# Altium footprint library IC packages.PcbLib: 68 footprints (part 1 of 5)
Each footprint in its own frame and in the unit in brackets; x right, y up, seen from the top. Pads: shape width x height; smd on the part's side, far side on the other; paste and mask are expansions set on the pad; w line width, h text height; cw(c..) or ccw(c..) is an arc to the next point about the centre after c.
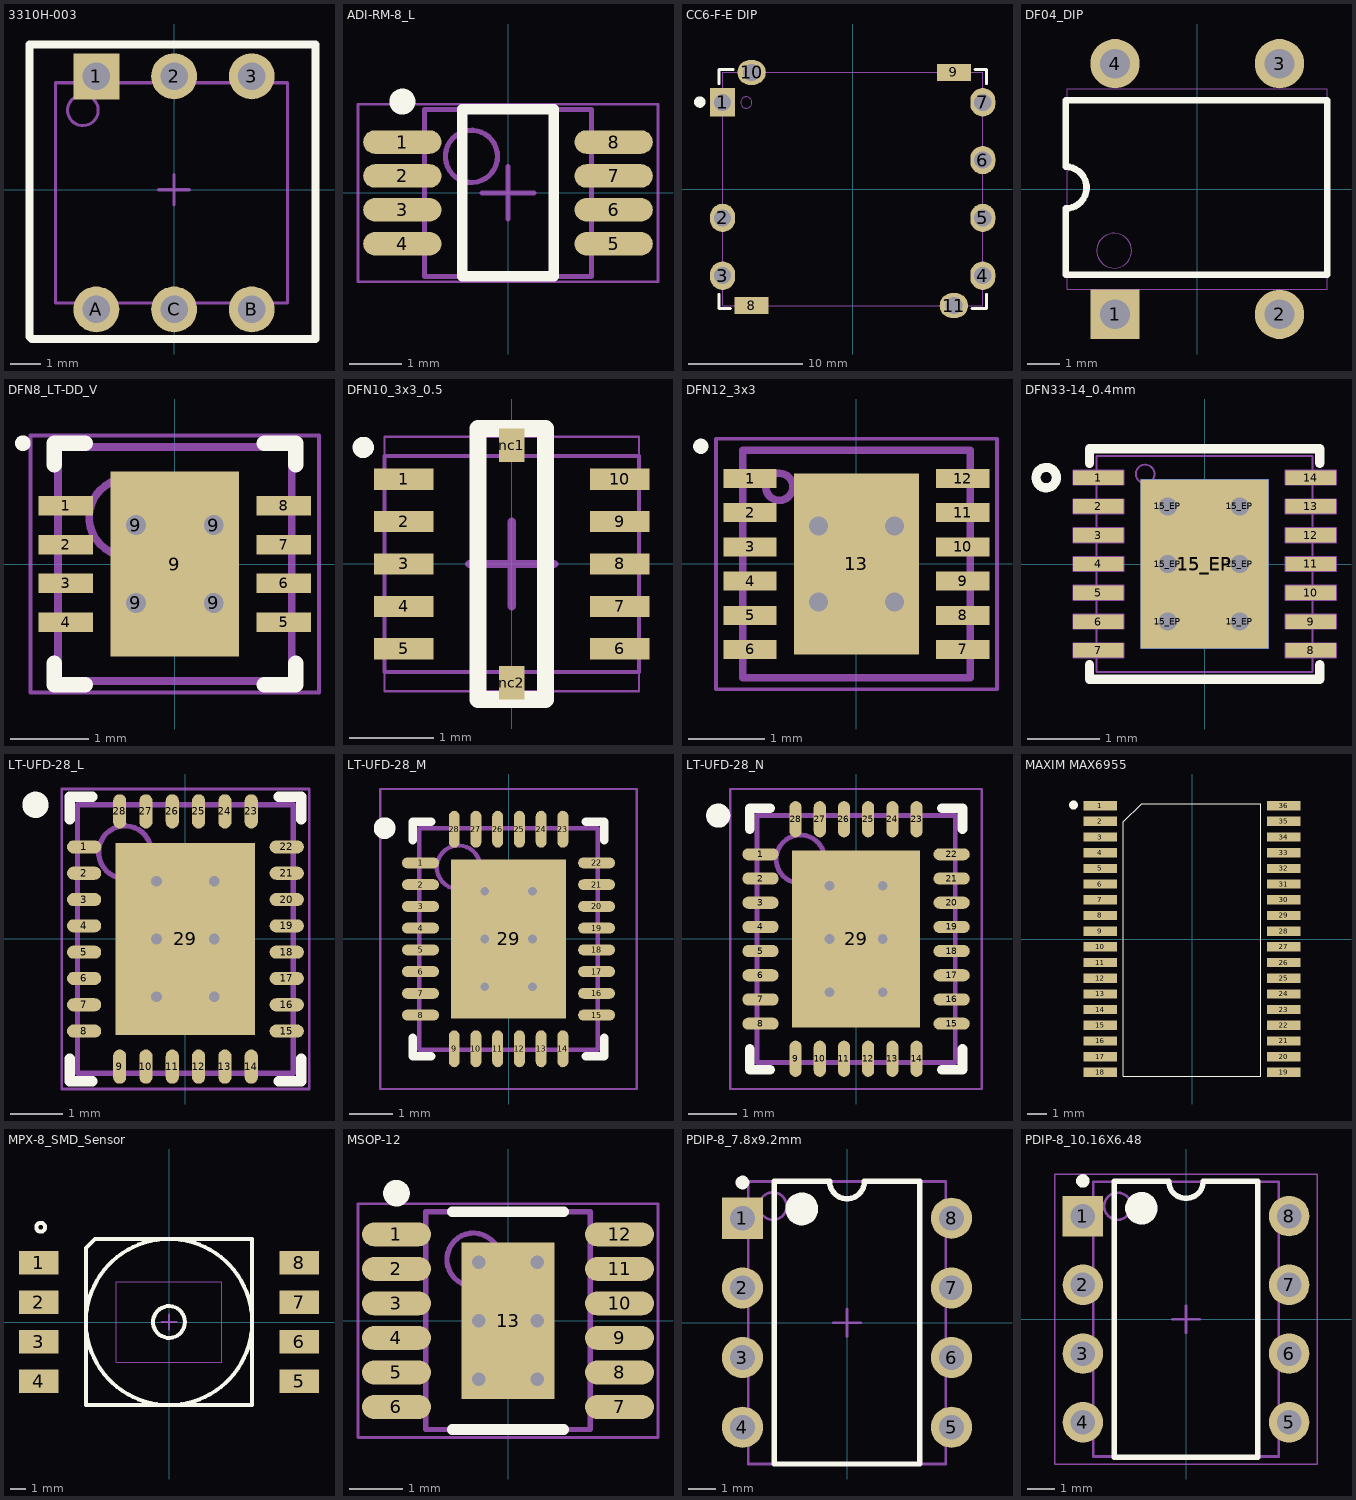
[diagram p0: the footprints below, top view; thin cyan lines are the x and y axes]

## 3310H-003 [mm] "6 Pin PDIP package, 7.8x9.2mm"
height 3.3
pads (6):
  rect 1.5x1.5 hole 0.9: 1(-2.54,3.708)
  round 1.5 hole 0.9: 2(0,3.708) 3(2.54,3.708) A(-2.54,-3.912) B(2.54,-3.912) C(0,-3.912)
Top Overlay:
  lines w0.254: -4.724,-4.801 -4.724,4.75 4.623,4.75 4.623,-4.877 -4.648,-4.877 -4.724,-4.801
Bottom Overlay:
  circle w0.25: c-3.886,4.115 r0.125
  lines w0.2: -4.032,-3.48 3.48,-3.48 3.48,3.581 -4.032,3.581 -4.032,0.686 cw(c-4.032,0.051) -4.032,-0.584 -4.032,-3.48
  lines w0.254: -4.953,-4.826 4.572,-4.826 4.572,4.928 -4.953,4.928 -4.953,-4.826
Mechanical 1:
  circle w0.1: c-2.98,2.598 r0.5
  lines w0.1: -3.88,-3.702 3.708,-3.702 3.708,3.498 -3.88,3.498 -3.88,-3.702
  text ".Designator" at -3.327,-0.559 h1.52
Mechanical 15:
  lines w0.1: -0.5,0 0.5,0 ; 0,-0.5 0,0.5
3D body "3310h-003.stp": height 20.24, standoff -5.97, extent -4.737,-5.004 4.788,4.75

## ADI-RM-8_L [mm] "SOP, 8-Leads, Body 3x3mm, Pitch 0.65mm, IPC High Density"
height 1.1
pads (8):
  oval 1.5x0.45 smd: 1(-2.025,0.975) 2(-2.025,0.325) 3(-2.025,-0.325) 4(-2.025,-0.975) 5(2.025,-0.975) 6(2.025,-0.325) 7(2.025,0.325) 8(2.025,0.975)
Top Overlay:
  circle w0.25: c-2.025,1.75 r0.125
  lines w0.2: -0.875,-1.6 0.875,-1.6 0.875,1.6 -0.875,1.6 -0.875,-1.6
Mechanical 13:
  circle w0.1: c-0.7,0.7 r0.5
  lines w0.1: -1.6,-1.6 1.6,-1.6 1.6,1.6 -1.6,1.6 -1.6,-1.6
Mechanical 15:
  lines w0.05: -2.875,-1.7 2.875,-1.7 2.875,1.7 -2.875,1.7 -2.875,-1.7
  lines w0.1: -0.5,0 0.5,0 ; 0,-0.5 0,0.5
3D body: height 1.1, standoff 0, extent -1.6,-1.6 1.6,1.6

## CC6-F-E DIP [mm] "TDK Lambda DC to DC can Pckg"
height 8.5
pads (11):
  rect 2.2x2.5 hole 1.5: 1(-11.43,7.62)
  oval 2.2x2.5 hole 1.5: 2(-11.43,-2.54) 3(-11.43,-7.62) 4(11.43,-7.62) 5(11.43,-2.54) 6(11.43,2.54) 7(11.43,7.62)
  rect 3x1.5 smd: 8(-8.89,-10.25) 9(8.89,10.25)
  oval 2.5x2.2 hole 1.5: 10(-8.89,10.25) 11(8.89,-10.25)
Top Overlay:
  circle w0.5: c-13.435,7.64 r0.25
  lines w0.254: -11.75,-9.25 -11.75,-10.5 -10.75,-10.5 ; -11.75,9.25 -11.75,10.5 -10.5,10.5 ; 10.5,-10.5 11.75,-10.5 11.75,-9.25 ; 10.75,10.5 11.75,10.5 11.75,9.25
Mechanical 1:
  circle w0.1: c-9.36,7.599 r0.5
  lines w0.025: -11.565,-8.122 -11.565,-7.118 -11.295,-7.118 -11.295,-8.122 ; -11.565,-8.122 -11.295,-8.122 ; -11.565,-8.122 -11.295,-8.122 ; -11.565,-3.042 -11.565,-2.038 -11.295,-2.038 -11.295,-3.042 ; -11.565,-3.042 -11.295,-3.042 ; -11.565,-3.042 -11.295,-3.042 ; -11.565,7.118 -11.295,7.118 ; -11.565,7.118 -11.295,7.118 ; -11.565,7.118 -11.565,8.122 -11.295,8.122 -11.295,7.118 ; -8.388,-10.385 -8.388,-10.115 ; -8.388,-10.385 -8.388,-10.115 ; -8.388,-10.385 -9.392,-10.385 -9.392,-10.115 -8.388,-10.115 ; -8.388,10.115 -9.392,10.115 -9.392,10.385 -8.388,10.385 ; -8.388,10.115 -8.388,10.385 ; -8.388,10.115 -8.388,10.385 ; 9.392,-10.385 9.392,-10.115 ; 9.392,-10.385 9.392,-10.115 ; 9.392,-10.385 8.388,-10.385 8.388,-10.115 9.392,-10.115 ; 9.392,10.115 9.392,10.385 ; 9.392,10.115 9.392,10.385 ; 9.392,10.115 8.388,10.115 8.388,10.385 9.392,10.385 ; 11.295,-8.122 11.295,-7.118 11.565,-7.118 11.565,-8.122 ; 11.295,-8.122 11.565,-8.122 ; 11.295,-8.122 11.565,-8.122 ; 11.295,-3.042 11.295,-2.038 11.565,-2.038 11.565,-3.042 ; 11.295,-3.042 11.565,-3.042 ; 11.295,-3.042 11.565,-3.042 ; 11.295,2.038 11.295,3.042 11.565,3.042 11.565,2.038 ; 11.295,2.038 11.565,2.038 ; 11.295,2.038 11.565,2.038 ; 11.295,7.118 11.295,8.122 11.565,8.122 11.565,7.118 ; 11.295,7.118 11.565,7.118 ; 11.295,7.118 11.565,7.118 ; -11.43,-10.25 -11.43,10.25 -8.89,10.25 0,10.25 8.89,10.25 11.43,10.25 11.43,-10.25 8.89,-10.25 -8.89,-10.25 -11.43,-10.25
  text ".Designator" at -1.988,-0.453 h1.52
3D body: height 8.5, standoff 0.5, extent -11.43,-10.25 11.43,10.25
3D body: height 2.09, standoff 0, extent -11.565,7.12 -11.295,8.12
3D body: height 2.36, standoff 2.09, extent -11.565,7.12 -11.045,8.12
3D body: height 0, standoff -1.6, extent -11.565,7.26 -11.295,7.98
3D body: height 2.09, standoff 0, extent 8.39,-10.385 9.39,-10.115
3D body: height 2.36, standoff 2.09, extent 8.39,-10.385 9.39,-9.865
3D body: height 0, standoff -1.6, extent 8.53,-10.385 9.25,-10.115
3D body: height 2.09, standoff 0, extent -9.39,10.115 -8.39,10.385
3D body: height 2.36, standoff 2.09, extent -9.39,9.865 -8.39,10.385
3D body: height 0, standoff -1.6, extent -9.25,10.115 -8.53,10.385
3D body: height 0, standoff -1.6, extent -11.565,-2.9 -11.295,-2.18
3D body: height 2.36, standoff 2.09, extent -11.565,-3.04 -11.045,-2.04
3D body: height 2.09, standoff 0, extent -11.565,-3.04 -11.295,-2.04
3D body: height 2.09, standoff 0, extent -11.565,-8.12 -11.295,-7.12
3D body: height 2.36, standoff 2.09, extent -11.565,-8.12 -11.045,-7.12
3D body: height 0, standoff -1.6, extent -11.565,-7.98 -11.295,-7.26
3D body: height 0, standoff -1.6, extent 11.295,-7.98 11.565,-7.26
3D body: height 2.36, standoff 2.09, extent 11.045,-8.12 11.565,-7.12
3D body: height 2.09, standoff 0, extent 11.295,-8.12 11.565,-7.12
3D body: height 2.09, standoff 0, extent 11.295,-3.04 11.565,-2.04
3D body: height 2.36, standoff 2.09, extent 11.045,-3.04 11.565,-2.04
3D body: height 0, standoff -1.6, extent 11.295,-2.9 11.565,-2.18
3D body: height 0, standoff -1.6, extent 11.295,7.26 11.565,7.98
3D body: height 2.36, standoff 2.09, extent 11.045,7.12 11.565,8.12
3D body: height 2.09, standoff 0, extent 11.295,7.12 11.565,8.12
3D body: height 0, standoff -1.6, extent 11.295,2.18 11.565,2.9
3D body: height 2.36, standoff 2.09, extent 11.045,2.04 11.565,3.04
3D body: height 2.09, standoff 0, extent 11.295,2.04 11.565,3.04

## DF04_DIP [mm] "4 pin DIP"
height 3.3
pads (4):
  rect 1.5x1.5 hole 0.9: 1(-2.5,-3.81)
  round 1.5 hole 0.9: 2(2.5,-3.81) 3(2.5,3.81) 4(-2.5,3.81)
Top Overlay:
  lines w0.2: -4,-2.608 -4,-0.593 ccw(c-4,0.042) -4,0.677 -4,2.692 3.95,2.692 3.95,-2.608 -4,-2.608
Mechanical 1:
  circle w0.025: c-2.525,-1.875 r0.53
  lines w0.025: -3.95,-3.05 -3.95,3.05 3.95,3.05 3.95,-3.05 -3.95,-3.05
  text ".Designator" at -2.5,-0.81 h1.52
Mechanical 15:
  lines w0.1: -3,-3.81 -2,-3.81 ; -2.5,-4.31 -2.5,-3.31
3D body "Bridge Rectifiers DF04.step": height 3.63, standoff -3.18, extent -4.1,-3.96 4.1,3.96

## DFN8_LT-DD_V [mm] "SON, 8-Leads, Body 3x3mm, Pitch 0.5mm, Thermal Pad 1.65x2.38 mm"
height 0.8
pads (13):
  rect 0.7x0.25 smd mask+0.102: 1(-1.4,0.75) 2(-1.4,0.25) 3(-1.4,-0.25) 4(-1.4,-0.75) 5(1.4,-0.75) 6(1.4,-0.25) 7(1.4,0.25) 8(1.4,0.75)
  round 0.508 hole 0.254: 9(-0.5,-0.5) 9(-0.5,0.5) 9(0.5,-0.5) 9(0.5,0.5)
  rect 1.65x2.38 smd mask+0.102: 9(0,0)
Top Overlay:
  circle w0.1: c-1.95,1.55 r0.05
  lines w0.2: -1.55,-1.275 -1.55,-1.55 -1.15,-1.55 ; -1.55,1.275 -1.55,1.55 -1.15,1.55 ; 1.15,-1.55 1.55,-1.55 1.55,-1.275 ; 1.15,1.55 1.55,1.55 1.55,1.275
Mechanical 1:
  circle w0.1: c-0.6,0.6 r0.5
  lines w0.1: -1.5,-1.5 1.5,-1.5 1.5,1.5 -1.5,1.5 -1.5,-1.5
Mechanical 15:
  lines w0.05: -1.85,-1.65 1.85,-1.65 1.85,1.65 -1.85,1.65 -1.85,-1.65
  lines w0.1: -0.5,0 0.5,0 ; 0,-0.5 0,0.5
3D body: height 0.8, standoff 0, extent -1.5,-1.5 1.5,1.5

## DFN10_3x3_0.5 [mm] "DFN, 10-leads, Body 3x3mm, Pitch 0.5mm"
height 1
pads (12):
  rect 0.7x0.25 smd mask-1: 1(-1.275,1) 2(-1.275,0.5) 3(-1.275,0) 4(-1.275,-0.5) 5(-1.275,-1) 6(1.275,-1) 7(1.275,-0.5) 8(1.275,0) 9(1.275,0.5) 10(1.275,1)
  rect 0.3x0.4 smd: nc1(0,1.4) nc2(0,-1.4)
Top Overlay:
  circle w0.125: c-1.75,1.375 r0.062
  lines w0.2: -0.4,-1.6 0.4,-1.6 0.4,1.6 -0.4,1.6 -0.4,-1.6
Top Solder:
  region: 1.725,1.2 0.8,1.2 0.8,-1.2 1.725,-1.2
  region: -1.725,1.2 -0.8,1.2 -0.8,-1.2 -1.725,-1.2
Mechanical 1:
  lines w0.025: -1.5,-1.5 -1.5,1.5 1.5,1.5 1.5,-1.5 -1.5,-1.5
Mechanical 15:
  lines w0.05: -1.5,-1.275 -1.5,1.275 1.5,1.275 1.5,-1.275 -1.5,-1.275
  lines w0.1: -0.5,0 0.5,0 ; 0,-0.5 0,0.5
3D body "DFN-10_3x3.STEP": height 0.8, standoff 0, extent -1.5,-1.5 1.5,1.5

## DFN12_3x3 [mm] "DFN, 12-Leads, Body 3x3mm, Pitch 0.45mm, Thermal Pad 2.38x1.65mm"
height 0.8
pads (13):
  rect 0.7x0.25 smd: 1(-1.4,1.125) 2(-1.4,0.675) 3(-1.4,0.225) 4(-1.4,-0.225) 5(-1.4,-0.675) 6(-1.4,-1.125) 7(1.4,-1.125) 8(1.4,-0.675) 9(1.4,-0.225) 10(1.4,0.225) 11(1.4,0.675) 12(1.4,1.125)
  rect 1.65x2.38 smd: 13(0,0)
via -0.5,0.5 diameter 0.508 hole 0.254
via 0.5,0.5 diameter 0.508 hole 0.254
via -0.5,-0.5 diameter 0.508 hole 0.254
via 0.5,-0.5 diameter 0.508 hole 0.254
Top Overlay:
  circle w0.1: c-2.05,1.55 r0.05
Mechanical 1:
  circle w0.1: c-1.016,1.016 r0.179
  lines w0.1: -1.5,-1.5 -1.5,1.5 1.5,1.5 1.5,-1.5 -1.5,-1.5
  text ".Designator" at -1.157,1.81 h1
Mechanical 15:
  lines w0.05: -1.85,-1.65 -1.85,1.65 1.85,1.65 1.85,-1.65 -1.85,-1.65
  lines w0.1: -0.5,0 0.5,0 ; 0,-0.5 0,0.5
3D body: height 0.8, standoff 0, extent -1.5,-1.5 1.5,1.5

## DFN33-14_0.4mm [mm] "DFN package, 14pin, 0.4mm"
height 0.75
pads (22):
  rect 0.7x0.2 smd: 1(-1.475,1.2) 2(-1.475,0.8) 3(-1.475,0.4) 4(-1.475,0) 5(-1.475,-0.4) 6(-1.475,-0.8) 7(-1.475,-1.2) 8(1.475,-1.2) 9(1.475,-0.8) 10(1.475,-0.4) 11(1.475,0) 12(1.475,0.4) 13(1.475,0.8) 14(1.475,1.2)
  round 0.5 hole 0.254 mask+0: 15_EP(-0.51,-0.8) 15_EP(-0.51,0) 15_EP(-0.51,0.8) 15_EP(0.49,-0.8) 15_EP(0.49,0) 15_EP(0.49,0.8)
  rect 1.78x2.35 smd far side: 15_EP(0,0)
  rect 1.78x2.35 smd: 15_EP(0,0)
Top Layer:
  lines w0.015: -0.4,0.4 -0.4,0.41 -0.39,0.41
Top Overlay:
  circle w0.127: c-2.2,1.2 r0.141
  lines w0.127: -1.6,-1.4 -1.6,-1.6 1.6,-1.6 1.6,-1.4 ; -1.6,1.4 -1.6,1.6 1.6,1.6 1.6,1.4
Mechanical 1:
  circle w0.025: c-0.825,1.25 r0.13
  lines w0.025: -1.825,-1.3 -1.825,-1.1 -1.125,-1.1 -1.125,-1.3 -1.825,-1.3 ; -1.825,-0.9 -1.825,-0.7 -1.125,-0.7 -1.125,-0.9 -1.825,-0.9 ; -1.825,-0.5 -1.825,-0.3 -1.125,-0.3 -1.125,-0.5 -1.825,-0.5 ; -1.825,-0.1 -1.825,0.1 -1.125,0.1 -1.125,-0.1 -1.825,-0.1 ; -1.825,0.3 -1.825,0.5 -1.125,0.5 -1.125,0.3 -1.825,0.3 ; -1.825,0.7 -1.825,0.9 -1.125,0.9 -1.125,0.7 -1.825,0.7 ; -1.825,1.1 -1.125,1.1 -1.125,1.3 -1.825,1.3 -1.825,1.1 ; -1.5,-1.5 1.5,-1.5 1.5,1.5 -1.5,1.5 -1.5,-1.5 ; 1.125,-1.3 1.125,-1.1 1.825,-1.1 1.825,-1.3 1.125,-1.3 ; 1.125,-0.9 1.125,-0.7 1.825,-0.7 1.825,-0.9 1.125,-0.9 ; 1.125,-0.5 1.125,-0.3 1.825,-0.3 1.825,-0.5 1.125,-0.5 ; 1.125,-0.1 1.125,0.1 1.825,0.1 1.825,-0.1 1.125,-0.1 ; 1.125,0.3 1.125,0.5 1.825,0.5 1.825,0.3 1.125,0.3 ; 1.125,0.7 1.125,0.9 1.825,0.9 1.825,0.7 1.125,0.7 ; 1.125,1.1 1.125,1.3 1.825,1.3 1.825,1.1 1.125,1.1
  text ".Designator" at -0.7,1.7 h1.52
3D body: height 0.75, standoff 0, extent -1.5,-1.5 1.5,1.5

## LT-UFD-28_L [mm] "QFN, 28-Leads, Body 5.1x4.1mm, Pitch 0.5mm, Thermal Pad 3.65x2.65mm, IPC High Density"
height 0.8
pads (29):
  oval 0.65x0.25 smd: 1(-1.925,1.75) 2(-1.925,1.25) 3(-1.925,0.75) 4(-1.925,0.25) 5(-1.925,-0.25) 6(-1.925,-0.75) 7(-1.925,-1.25) 8(-1.925,-1.75) 15(1.925,-1.75) 16(1.925,-1.25) 17(1.925,-0.75) 18(1.925,-0.25) 19(1.925,0.25) 20(1.925,0.75) 21(1.925,1.25) 22(1.925,1.75)
  oval 0.25x0.65 smd: 9(-1.25,-2.425) 10(-0.75,-2.425) 11(-0.25,-2.425) 12(0.25,-2.425) 13(0.75,-2.425) 14(1.25,-2.425) 23(1.25,2.425) 24(0.75,2.425) 25(0.25,2.425) 26(-0.25,2.425) 27(-0.75,2.425) 28(-1.25,2.425)
  rect 2.65x3.65 smd: 29(0,0)
via 0.55,-1.1 diameter 0.5 hole 0.2
via -0.55,-1.1 diameter 0.5 hole 0.2
via 0.55,0 diameter 0.5 hole 0.2
via -0.55,0 diameter 0.5 hole 0.2
via 0.55,1.1 diameter 0.5 hole 0.2
via -0.55,1.1 diameter 0.5 hole 0.2
Top Overlay:
  circle w0.25: c-2.85,2.55 r0.125
  lines w0.2: -2.2,-2.275 -2.2,-2.7 -1.775,-2.7 ; -2.2,2.275 -2.2,2.7 -1.775,2.7 ; 1.775,-2.7 2.2,-2.7 2.2,-2.275 ; 1.775,2.7 2.2,2.7 2.2,2.275
Mechanical 13:
  circle w0.1: c-1.15,1.65 r0.5
  lines w0.1: -2.05,-2.55 2.05,-2.55 2.05,2.55 -2.05,2.55 -2.05,-2.55
Mechanical 15:
  lines w0.05: -2.35,-2.85 2.35,-2.85 2.35,2.85 -2.35,2.85 -2.35,-2.85
  lines w0.1: -0.5,0 0.5,0 ; 0,-0.5 0,0.5
3D body: height 0.8, standoff 0, extent -2.05,-2.55 2.05,2.55

## LT-UFD-28_M [mm] "QFN, 28-Leads, Body 5.1x4.1mm, Pitch 0.5mm, Thermal Pad 3.65x2.65mm, IPC Low Density"
height 0.8
pads (29):
  oval 0.85x0.25 smd: 1(-2.025,1.75) 2(-2.025,1.25) 3(-2.025,0.75) 4(-2.025,0.25) 5(-2.025,-0.25) 6(-2.025,-0.75) 7(-2.025,-1.25) 8(-2.025,-1.75) 15(2.025,-1.75) 16(2.025,-1.25) 17(2.025,-0.75) 18(2.025,-0.25) 19(2.025,0.25) 20(2.025,0.75) 21(2.025,1.25) 22(2.025,1.75)
  oval 0.25x0.85 smd: 9(-1.25,-2.525) 10(-0.75,-2.525) 11(-0.25,-2.525) 12(0.25,-2.525) 13(0.75,-2.525) 14(1.25,-2.525) 23(1.25,2.525) 24(0.75,2.525) 25(0.25,2.525) 26(-0.25,2.525) 27(-0.75,2.525) 28(-1.25,2.525)
  rect 2.65x3.65 smd: 29(0,0)
via 0.55,-1.1 diameter 0.5 hole 0.2
via -0.55,-1.1 diameter 0.5 hole 0.2
via 0.55,0 diameter 0.5 hole 0.2
via -0.55,0 diameter 0.5 hole 0.2
via 0.55,1.1 diameter 0.5 hole 0.2
via -0.55,1.1 diameter 0.5 hole 0.2
Top Overlay:
  circle w0.25: c-2.85,2.55 r0.125
  lines w0.2: -2.2,-2.275 -2.2,-2.7 -1.775,-2.7 ; -2.2,2.275 -2.2,2.7 -1.775,2.7 ; 1.775,-2.7 2.2,-2.7 2.2,-2.275 ; 1.775,2.7 2.2,2.7 2.2,2.275
Mechanical 13:
  circle w0.1: c-1.15,1.65 r0.5
  lines w0.1: -2.05,-2.55 2.05,-2.55 2.05,2.55 -2.05,2.55 -2.05,-2.55
Mechanical 15:
  lines w0.05: -2.95,-3.45 2.95,-3.45 2.95,3.45 -2.95,3.45 -2.95,-3.45
  lines w0.1: -0.5,0 0.5,0 ; 0,-0.5 0,0.5
3D body: height 0.8, standoff 0, extent -2.05,-2.55 2.05,2.55

## LT-UFD-28_N [mm] "QFN, 28-Leads, Body 5.1x4.1mm, Pitch 0.5mm, Thermal Pad 3.65x2.65mm, IPC Medium Density"
height 0.8
pads (29):
  oval 0.75x0.25 smd: 1(-1.975,1.75) 2(-1.975,1.25) 3(-1.975,0.75) 4(-1.975,0.25) 5(-1.975,-0.25) 6(-1.975,-0.75) 7(-1.975,-1.25) 8(-1.975,-1.75) 15(1.975,-1.75) 16(1.975,-1.25) 17(1.975,-0.75) 18(1.975,-0.25) 19(1.975,0.25) 20(1.975,0.75) 21(1.975,1.25) 22(1.975,1.75)
  oval 0.25x0.75 smd: 9(-1.25,-2.475) 10(-0.75,-2.475) 11(-0.25,-2.475) 12(0.25,-2.475) 13(0.75,-2.475) 14(1.25,-2.475) 23(1.25,2.475) 24(0.75,2.475) 25(0.25,2.475) 26(-0.25,2.475) 27(-0.75,2.475) 28(-1.25,2.475)
  rect 2.65x3.65 smd: 29(0,0)
via -0.55,1.1 diameter 0.5 hole 0.2
via 0.55,1.1 diameter 0.5 hole 0.2
via -0.55,0 diameter 0.5 hole 0.2
via 0.55,0 diameter 0.5 hole 0.2
via -0.55,-1.1 diameter 0.5 hole 0.2
via 0.55,-1.1 diameter 0.5 hole 0.2
Top Overlay:
  circle w0.25: c-2.85,2.55 r0.125
  lines w0.2: -2.2,-2.275 -2.2,-2.7 -1.775,-2.7 ; -2.2,2.275 -2.2,2.7 -1.775,2.7 ; 1.775,-2.7 2.2,-2.7 2.2,-2.275 ; 1.775,2.7 2.2,2.7 2.2,2.275
Mechanical 13:
  circle w0.1: c-1.15,1.65 r0.5
  lines w0.1: -2.05,-2.55 -2.05,2.55 2.05,2.55 2.05,-2.55 -2.05,-2.55
Mechanical 15:
  lines w0.05: -2.6,-3.1 -2.6,3.1 2.6,3.1 2.6,-3.1 -2.6,-3.1
  lines w0.1: -0.5,0 0.5,0 ; 0,-0.5 0,0.5
3D body: height 0.8, standoff 0, extent -2.05,-2.55 2.05,2.55

## MAXIM MAX6955 [mm] "MAXIM MAX6955"
pads (36):
  rect 1.7x0.47 smd: 1(-4.675,6.8) 2(-4.675,6) 3(-4.675,5.2) 4(-4.675,4.4) 5(-4.675,3.6) 6(-4.675,2.8) 7(-4.675,2) 8(-4.675,1.2) 9(-4.675,0.4) 10(-4.675,-0.4) 11(-4.675,-1.2) 12(-4.675,-2) 13(-4.675,-2.8) 14(-4.675,-3.6) 15(-4.675,-4.4) 16(-4.675,-5.2) 17(-4.675,-6) 18(-4.675,-6.8) 19(4.675,-6.8) 20(4.675,-6) 21(4.675,-5.2) 22(4.675,-4.4) 23(4.675,-3.6) 24(4.675,-2.8) 25(4.675,-2) 26(4.675,-1.2) 27(4.675,-0.4) 28(4.675,0.4) 29(4.675,1.2) 30(4.675,2) 31(4.675,2.8) 32(4.675,3.6) 33(4.675,4.4) 34(4.675,5.2) 35(4.675,6) 36(4.675,6.8)
Top Overlay:
  circle w0.254: c-6.045,6.833 r0.1
  lines w0.05: -3.5,-7 -3.5,5.974 -2.574,6.9 3.5,6.9 3.5,-7 -3.5,-7
3D body "MAX6955.STEP": height 2.57, standoff 0.01, extent -5.05,-7.62 5.05,7.58

## MPX-8_SMD_Sensor [mil] "Pressure Sensor"
height 68.9
pads (8):
  rect 100x60 smd: 1(-330,150) 2(-330,50) 3(-330,-50) 4(-330,-150) 5(330,-150) 6(330,-50) 7(330,50) 8(330,150)
Top Overlay:
  circle w10: c0,0 r210.63
  circle w10: c0,0 r40.31
  circle w10: c-325,240 r11.18
  lines w10: -210.63,-210.63 -210.63,187 -187.01,210.63 210.63,210.63 210.63,-210.63 -210.63,-210.63
Mechanical 1:
  circle w1: c0,0 r40.31
  circle w1: c0,0 r210.63
  lines w1: -210.63,-210.63 210.63,-210.63 210.63,210.63 -187.01,210.63 -210.63,187 -210.63,-210.63
Mechanical 15:
  lines w1.97: -133.86,-102.36 133.86,-102.36 133.86,102.36 -133.86,102.36 -133.86,-102.36
  lines w3.94: -19.69,0 19.68,0 ; 0,-19.68 0,19.68
3D body "MPXV6115V.step": height 511.81, standoff 0, extent -358.27,-222.44 358.27,222.44

## MSOP-12 [mm] "SOP, 12-Leads, Body 4.1x3.1mm, Pitch 0.65mm, Thermal Pad 2.95x1.76mm, IPC High Density"
height 1.1
pads (13):
  oval 1.3x0.45 smd: 1(-2.1,1.625) 2(-2.1,0.975) 3(-2.1,0.325) 4(-2.1,-0.325) 5(-2.1,-0.975) 6(-2.1,-1.625) 7(2.1,-1.625) 8(2.1,-0.975) 9(2.1,-0.325) 10(2.1,0.325) 11(2.1,0.975) 12(2.1,1.625)
  rect 1.76x2.95 smd: 13(0,0)
via 0.55,-1.1 diameter 0.508 hole 0.254
via -0.55,-1.1 diameter 0.508 hole 0.254
via 0.55,0 diameter 0.508 hole 0.254
via -0.55,0 diameter 0.508 hole 0.254
via 0.55,1.1 diameter 0.508 hole 0.254
via -0.55,1.1 diameter 0.508 hole 0.254
Top Overlay:
  circle w0.25: c-2.1,2.4 r0.125
  lines w0.2: -1.05,-2.05 1.05,-2.05 ; -1.05,2.05 1.05,2.05
Mechanical 1:
  circle w0.1: c-0.65,1.15 r0.5
  lines w0.1: -1.55,-2.05 1.55,-2.05 1.55,2.05 -1.55,2.05 -1.55,-2.05
  text ".Designator" at -1.509,2.695 h1.02
Mechanical 15:
  lines w0.05: -2.825,-2.2 2.825,-2.2 2.825,2.2 -2.825,2.2 -2.825,-2.2
  lines w0.1: -0.5,0 0.5,0 ; 0,-0.5 0,0.5
3D body: height 1.1, standoff 0.05, extent -1.55,-2.05 1.55,2.05

## PDIP-8_7.8x9.2mm [mm] "8 Pin PDIP package, 7.8x9.2mm"
height 3.3
pads (8):
  rect 1.5x1.5 hole 0.9: 1(-3.81,3.81)
  round 1.5 hole 0.9: 2(-3.81,1.27) 3(-3.81,-1.27) 4(-3.81,-3.81) 5(3.81,-3.81) 6(3.81,-1.27) 7(3.81,1.27) 8(3.81,3.81)
Top Overlay:
  circle w0.25: c-3.81,5.11 r0.125
  circle w0.6: c-1.65,4.15 r0.3
  lines w0.2: -2.65,-5.15 -2.65,5.15 -0.635,5.15 ccw(c0,5.15) 0.635,5.15 2.65,5.15 2.65,-5.15 -2.65,-5.15
Mechanical 1:
  circle w0.1: c-2.7,4.25 r0.5
  lines w0.1: -3.6,-5.15 -3.6,5.15 3.6,5.15 3.6,-5.15 -3.6,-5.15
  text ".Designator" at -2.5,-0.81 h1.52
Mechanical 15:
  lines w0.1: -0.5,0 0.5,0 ; 0,-0.5 0,0.5
3D body: height 5.33, standoff 0, extent -3.6,-5.15 3.6,5.15

## PDIP-8_10.16X6.48 [mm] "8 Pin PDIP Package"
height 3.3
pads (8):
  rect 1.5x1.5 hole 0.9: 1(-3.81,3.81)
  round 1.5 hole 0.9: 2(-3.81,1.27) 3(-3.81,-1.27) 4(-3.81,-3.81) 5(3.81,-3.81) 6(3.81,-1.27) 7(3.81,1.27) 8(3.81,3.81)
Top Overlay:
  circle w0.25: c-3.81,5.11 r0.125
  circle w0.6: c-1.65,4.1 r0.3
  lines w0.2: -2.65,-5.1 -2.65,5.1 -0.635,5.1 ccw(c0,5.1) 0.635,5.1 2.65,5.1 2.65,-5.1 -2.65,-5.1
Mechanical 1:
  circle w0.1: c-2.525,4.175 r0.5
  lines w0.1: -3.425,-5.075 -3.425,5.075 3.425,5.075 3.425,-5.075 -3.425,-5.075
  text ".Designator" at -2.032,-1.016 h1.52
Mechanical 15:
  lines w0.05: -4.85,-5.35 -4.85,5.35 4.85,5.35 4.85,-5.35 -4.85,-5.35
  lines w0.1: -0.5,0 0.5,0 ; 0,-0.5 0,0.5
3D body: height 2.09, standoff 0, extent -3.945,3.31 -3.675,4.31
3D body: height 2.36, standoff 2.09, extent -3.945,3.31 -3.425,4.31
3D body: height 0, standoff -1.6, extent -3.945,3.45 -3.675,4.17
3D body: height 2.09, standoff 0, extent -3.945,0.77 -3.675,1.77
3D body: height 2.36, standoff 2.09, extent -3.945,0.77 -3.425,1.77
3D body: height 0, standoff -1.6, extent -3.945,0.91 -3.675,1.63
3D body: height 2.09, standoff 0, extent -3.945,-1.77 -3.675,-0.77
3D body: height 2.36, standoff 2.09, extent -3.945,-1.77 -3.425,-0.77
3D body: height 0, standoff -1.6, extent -3.945,-1.63 -3.675,-0.91
3D body: height 2.09, standoff 0, extent -3.945,-4.31 -3.675,-3.31
3D body: height 2.36, standoff 2.09, extent -3.945,-4.31 -3.425,-3.31
3D body: height 0, standoff -1.6, extent -3.945,-4.17 -3.675,-3.45
3D body: height 2.09, standoff 0, extent 3.675,-4.31 3.945,-3.31
3D body: height 2.36, standoff 2.09, extent 3.425,-4.31 3.945,-3.31
3D body: height 0, standoff -1.6, extent 3.675,-4.17 3.945,-3.45
3D body: height 2.09, standoff 0, extent 3.675,-1.77 3.945,-0.77
3D body: height 2.36, standoff 2.09, extent 3.425,-1.77 3.945,-0.77
3D body: height 0, standoff -1.6, extent 3.675,-1.63 3.945,-0.91
3D body: height 2.09, standoff 0, extent 3.675,0.77 3.945,1.77
3D body: height 2.36, standoff 2.09, extent 3.425,0.77 3.945,1.77
3D body: height 0, standoff -1.6, extent 3.675,0.91 3.945,1.63
3D body: height 2.09, standoff 0, extent 3.675,3.31 3.945,4.31
3D body: height 2.36, standoff 2.09, extent 3.425,3.31 3.945,4.31
3D body: height 0, standoff -1.6, extent 3.675,3.45 3.945,4.17
3D body: height 0.51, standoff 0, extent -3.425,-5.075 3.425,5.075